# Altium footprint library FP-RAD-TH-D_18_0_5-L_40_2-MFG_H.PcbLib: 2 footprints
Each footprint in its own frame and in the unit in brackets; x right, y up, seen from the top. Pads: shape width x height; smd on the part's side, far side on the other; paste and mask are expansions set on the pad; w line width, h text height; cw(c..) or ccw(c..) is an arc to the next point about the centre after c.
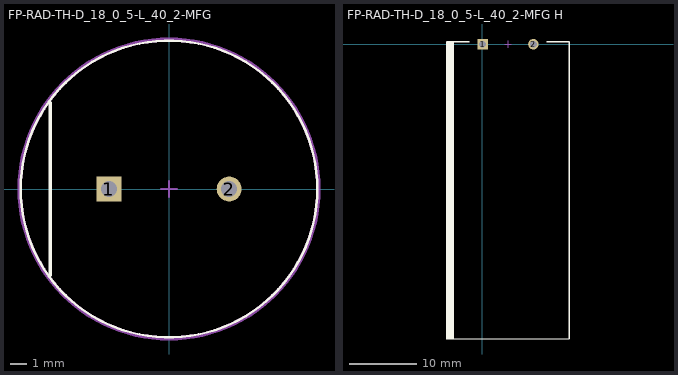
[diagram p0: the footprints below, top view; thin cyan lines are the x and y axes]

## FP-RAD-TH-D_18_0_5-L_40_2-MFG [mm]
pads (2):
  rect 1.55x1.55 hole 1 paste-1000 mask+0: 1(-3.75,0)
  round 1.55 hole 1 paste-1000 mask+0: 2(3.75,0)
Top Overlay:
  circle w0.15: c0,0 r9.25
  lines w0.2: -7.4,-5.4 -7.4,5.4
Mechanical 5:
  text ".Designator" at 0,0.188 h1
Mechanical 13:
  circle w0.15: c0,0 r9.25
Mechanical 15:
  lines w0.2: -9.35,0 cw(c0,0) 9.35,0 cw(c0,0) -9.35,0
Mechanical 16:
  lines w0.1: -0.5,0 0.5,0 ; 0,-0.5 0,0.5
3D body "Cap_Panasonic_ECA2DM331E_eec_H.x_t": height 18, standoff -2, extent -9,-43.524 9,0.376

## FP-RAD-TH-D_18_0_5-L_40_2-MFG H [mm]
pads (2):
  rect 1.55x1.55 hole 1 paste-1000 mask+0: 1(0.06,0)
  round 1.55 hole 1 paste-1000 mask+0: 2(7.56,0)
Top Overlay:
  lines w0.2: -1.905,0.381 -4.572,0.381 -5.207,0.381 -5.207,-43.561 12.827,-43.561 12.827,0.381 12.192,0.381 9.525,0.381
  lines w0.3: -5.08,-43.434 -5.08,0.254 ; -4.826,-43.434 -4.826,0.254 ; -4.699,-43.434 -4.699,0.254 ; -4.572,-43.434 -4.572,0.254 ; -4.318,-43.434 -4.318,0.254
Mechanical 5:
  text ".Designator" at 3.81,0.188 h1
Mechanical 16:
  lines w0.1: 3.31,0 4.31,0 ; 3.81,-0.5 3.81,0.5
3D body "Cap_Panasonic_ECA2DM331E_eec_H.x_t": height 18, standoff -2, extent -5.19,-43.524 12.81,0.376